# Altium footprint library TE_4-644456-9.PcbLib: 1 footprints
Each footprint in its own frame and in the unit in brackets; x right, y up, seen from the top. Pads: shape width x height; smd on the part's side, far side on the other; paste and mask are expansions set on the pad; w line width, h text height; cw(c..) or ccw(c..) is an arc to the next point about the centre after c.
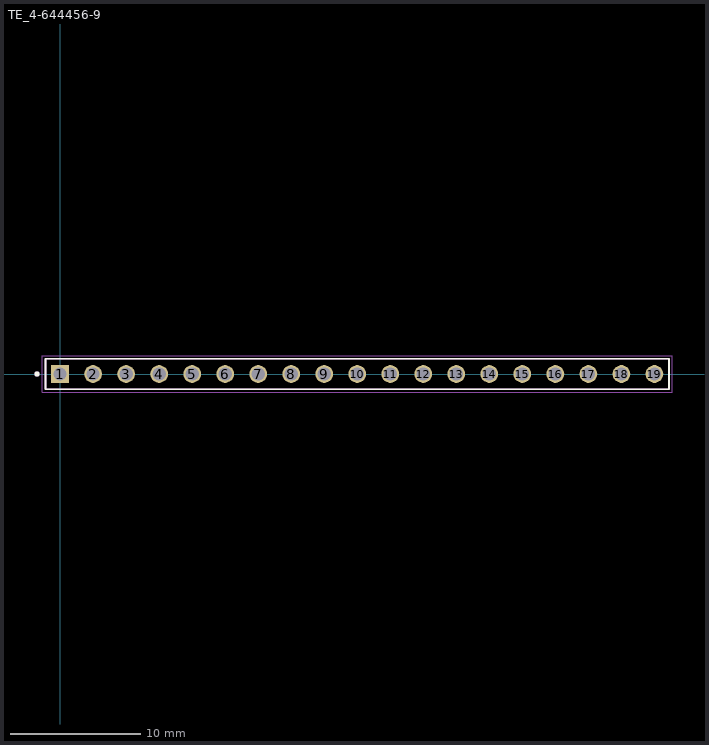
[diagram p0: the footprint, top view; thin cyan lines are the x and y axes]

## TE_4-644456-9 [mm]
pads (19):
  rect 1.37x1.37 hole 1.02: 1(0,0)
  round 1.37 hole 1.02: 2(2.54,0) 3(5.08,0) 4(7.62,0) 5(10.16,0) 6(12.7,0) 7(15.24,0) 8(17.78,0) 9(20.32,0) 10(22.86,0) 11(25.4,0) 12(27.94,0) 13(30.48,0) 14(33.02,0) 15(35.56,0) 16(38.1,0) 17(40.64,0) 18(43.18,0) 19(45.72,0)
Top Overlay:
  circle w0.2: c-1.768,0 r0.1
  lines w0.127: -1.118,-1.168 -1.118,1.168 46.838,1.168 46.838,-1.168 -1.118,-1.168
Mechanical 13:
  circle w0.2: c-1.768,0 r0.1
  lines w0.127: -1.118,-1.168 -1.118,1.168 46.838,1.168 46.838,-1.168 ; -1.118,-1.168 46.838,-1.168 ; -1.118,-1.168 46.838,-1.168
Mechanical 15:
  lines w0.05: -1.368,-1.418 -1.368,1.418 47.088,1.418 47.088,-1.418 -1.368,-1.418